# Altium footprint library push-button.PcbLib: 1 footprints
Each footprint in its own frame and in the unit in brackets; x right, y up, seen from the top. Pads: shape width x height; smd on the part's side, far side on the other; paste and mask are expansions set on the pad; w line width, h text height; cw(c..) or ccw(c..) is an arc to the next point about the centre after c.
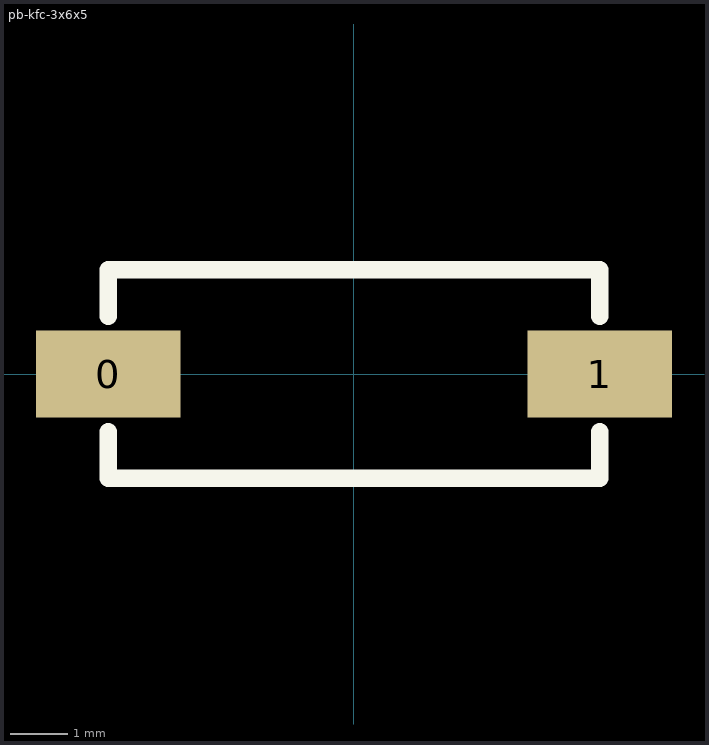
[diagram p0: the footprint, top view; thin cyan lines are the x and y axes]

## pb-kfc-3x6x5 [mm] "taktile switch"
pads (2):
  rect 2.5x1.5 smd: 0(-4.25,0) 1(4.25,0)
Top Overlay:
  lines w0.3: -4.25,-1 -4.25,-1.8 4.25,-1.8 4.25,-1 ; -4.25,1 -4.25,1.8 4.25,1.8 4.25,1
3D body: height 3.5, standoff 3.45, extent -4.25,-1.8 4.25,1.8
3D body: height 3.45, standoff 0, extent -4.25,-1.8 4.25,1.8
3D body: height 5, standoff 3, extent -1.5,-0.75 1.5,0.75